# Altium schematic symbol library RMCF0603FT1K00.SchLib: 1 symbol
Pins are listed as number, name and electrical type; pins without a type are passive.

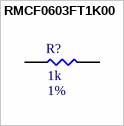
[diagram p0: symbol RMCF0603FT1K00]

## RMCF0603FT1K00
designator R?  Resistance: 1k  Tolerance: 1%  (hidden comment: RMCF0603FT1K00)
RES 1K OHM 1% 1/10W 0603; MFR: Stackpole Electronics Inc; PN: RMCF0603FT1K00; Footprint: RES0603; Package: 0603; ComponentLink1Description: Datasheet; ComponentLink1URL: https://www.seielect.com/catalog/sei-rmcf_rmcp.pdf; Power Rating: 1/10W; Supplier 1: Digi-Key; Supplier Part Number 1: RMCF0603FT1K00CT-ND
footprint RES0603 (Generic 0603)
pins: 1, 2